# Altium footprint library Diodes.PcbLib: 19 footprints (part 2 of 2)
Each footprint in its own frame and in the unit in brackets; x right, y up, seen from the top. Pads: shape width x height; smd on the part's side, far side on the other; paste and mask are expansions set on the pad; w line width, h text height; cw(c..) or ccw(c..) is an arc to the next point about the centre after c.
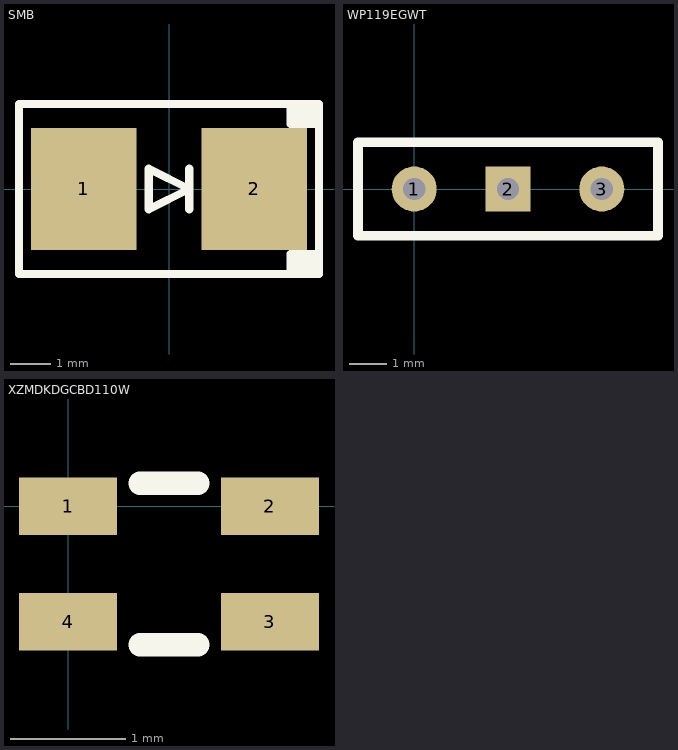
[diagram p1: the footprints below, top view; thin cyan lines are the x and y axes]

## SMB [mm] "SMB diode package"
pads (2):
  rect 2.6x3 smd paste+0 mask+0: 1(-2.1,0) 2(2.1,0)
Top Overlay:
  region: 3,2.1 3,1.6 3.7,1.6 3.7,2.1
  region: 3,-2.1 3,-1.6 3.7,-1.6 3.7,-2.1
  lines w0.2: 0.5,-0.5 0.5,0.5 ; 3,-2.1 3,-1.6 3.7,-1.6 ; 3,2.1 3,1.6 3.7,1.6 ; -3.7,-2.1 -3.7,2.1 3.7,2.1 3.7,-2.1 -3.7,-2.1 ; -0.5,-0.5 -0.5,0.5 0.5,0 -0.5,-0.5
3D body "User Library-DIOM5539X24.step": height 2.45, standoff 0.03, extent -2.75,-1.95 2.75,1.95

## WP119EGWT [mm] "Two color LED"
height 18
pads (3):
  round 1.2 hole 0.6: 1(0,0) 3(5,0)
  rect 1.2x1.2 hole 0.6: 2(2.5,0)
Top Overlay:
  lines w0.254: -1.5,-1.25 -1.5,1.25 6.5,1.25 6.5,-1.25 -1.5,-1.25

## XZMDKDGCBD110W [mm] "RGB LED SunLED XZMDKDGCBD110W"
pads (4):
  rect 0.85x0.5 smd: 1(0,0) 2(1.75,0) 3(1.75,-1) 4(0,-1)
Top Overlay:
  lines w0.2: 0.625,-1.2 1.125,-1.2 ; 0.625,0.2 1.125,0.2